# Altium footprint library CON6_JST_ZR-SM4.PcbLib: 1 footprints
Each footprint in its own frame and in the unit in brackets; x right, y up, seen from the top. Pads: shape width x height; smd on the part's side, far side on the other; paste and mask are expansions set on the pad; w line width, h text height; cw(c..) or ccw(c..) is an arc to the next point about the centre after c.
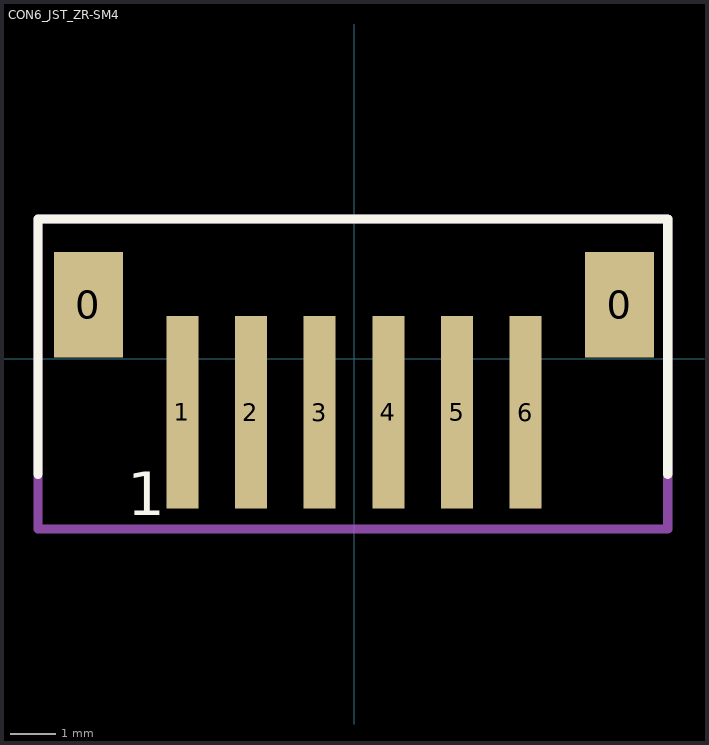
[diagram p0: the footprint, top view; thin cyan lines are the x and y axes]

## CON6_JST_ZR-SM4 [mm] "1.5mm pitch"
height 6.4
pads (8):
  rect 1.5x2.3 smd: 0(-5.8,1.175) 0(5.8,1.175)
  rect 0.7x4.2 smd: 1(-3.75,-1.175) 2(-2.25,-1.175) 3(-0.75,-1.175) 4(0.75,-1.175) 5(2.25,-1.175) 6(3.75,-1.175)
Top Overlay:
  lines w0.203: -6.904,-2.526 -6.904,3.05 6.85,3.05 6.85,-2.526
  text "1" at -4.95,-3.425 h0.95
Mechanical 1:
  lines w0.203: -6.904,-3.725 6.85,-3.725 6.85,3.05 -6.904,3.05 -6.904,-3.725
3D body "B6B-ZR-SM4-TF.STEP": height 5, standoff 0, extent -6,-2.275 6,2.925